# EAGLE library part 750314889 (library Midcom Inc - EAGLE Lib V2-0)
Package Style: ETD39 Mounting: THT Pins: 16 pins Bobbin: 070-5724 Best pinouts for production vary per application. Please contact Wurth Electronics Midcom, Inc. for assistance with your custom design. Website: Wurth Electronics Midcom <http://www.we-online.com/midcom> Contact us Wurth Electronics Midcom, Inc. 121 Airport Dr. Watertown, SD 57201 Phone: (605) 886-4385 Fax: (605) 886-4486 E-Mail: midcom@we-online.com
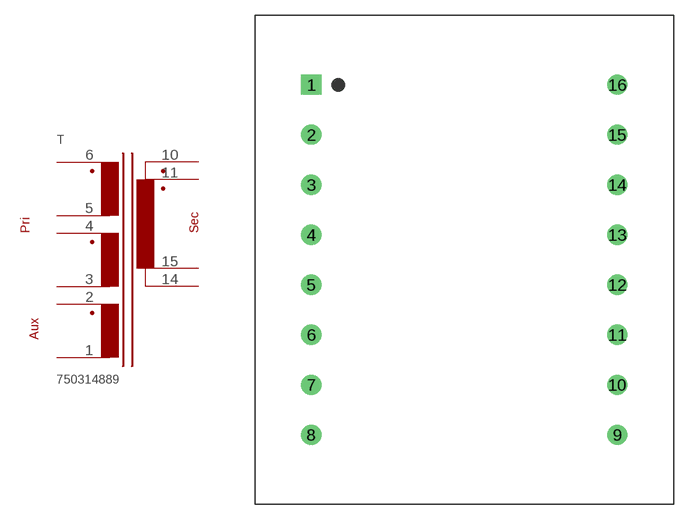
[diagram p73: symbol with the pads of ETD39_THT_H_16PIN_(5724); footprint ETD39_THT_H_16PIN_(5724)]

Designator prefix T

## 750314889  [ETD39_THT_H_16PIN_(5724)]
1  1  pas
2  2  pas
3  3  pas
4  4  pas
5  5  pas
6  6  pas
10  10  pas
11  11  pas
14  14  pas
15  15  pas

## Footprint ETD39_THT_H_16PIN_(5724) (pad centres in mm)
Package Style: ETD39 Mounting: THT Pins: 16 Bobbin: 070-5724
drill 1.346 square: 1 -15.303,17.513
drill 1.346: 2 -15.303,12.509; 3 -15.303,7.506; 4 -15.303,2.502; 5 -15.303,-2.502; 6 -15.303,-7.506; 7 -15.303,-12.509; 8 -15.303,-17.513; 9 15.303,-17.513; 10 15.303,-12.509; 11 15.303,-7.506; 12 15.303,-2.502; 13 15.303,2.502; 14 15.303,7.506; 15 15.303,12.509; 16 15.303,17.513